# Altium integrated library NSC LDO.IntLib: 2590 symbols (part 30 of 64)
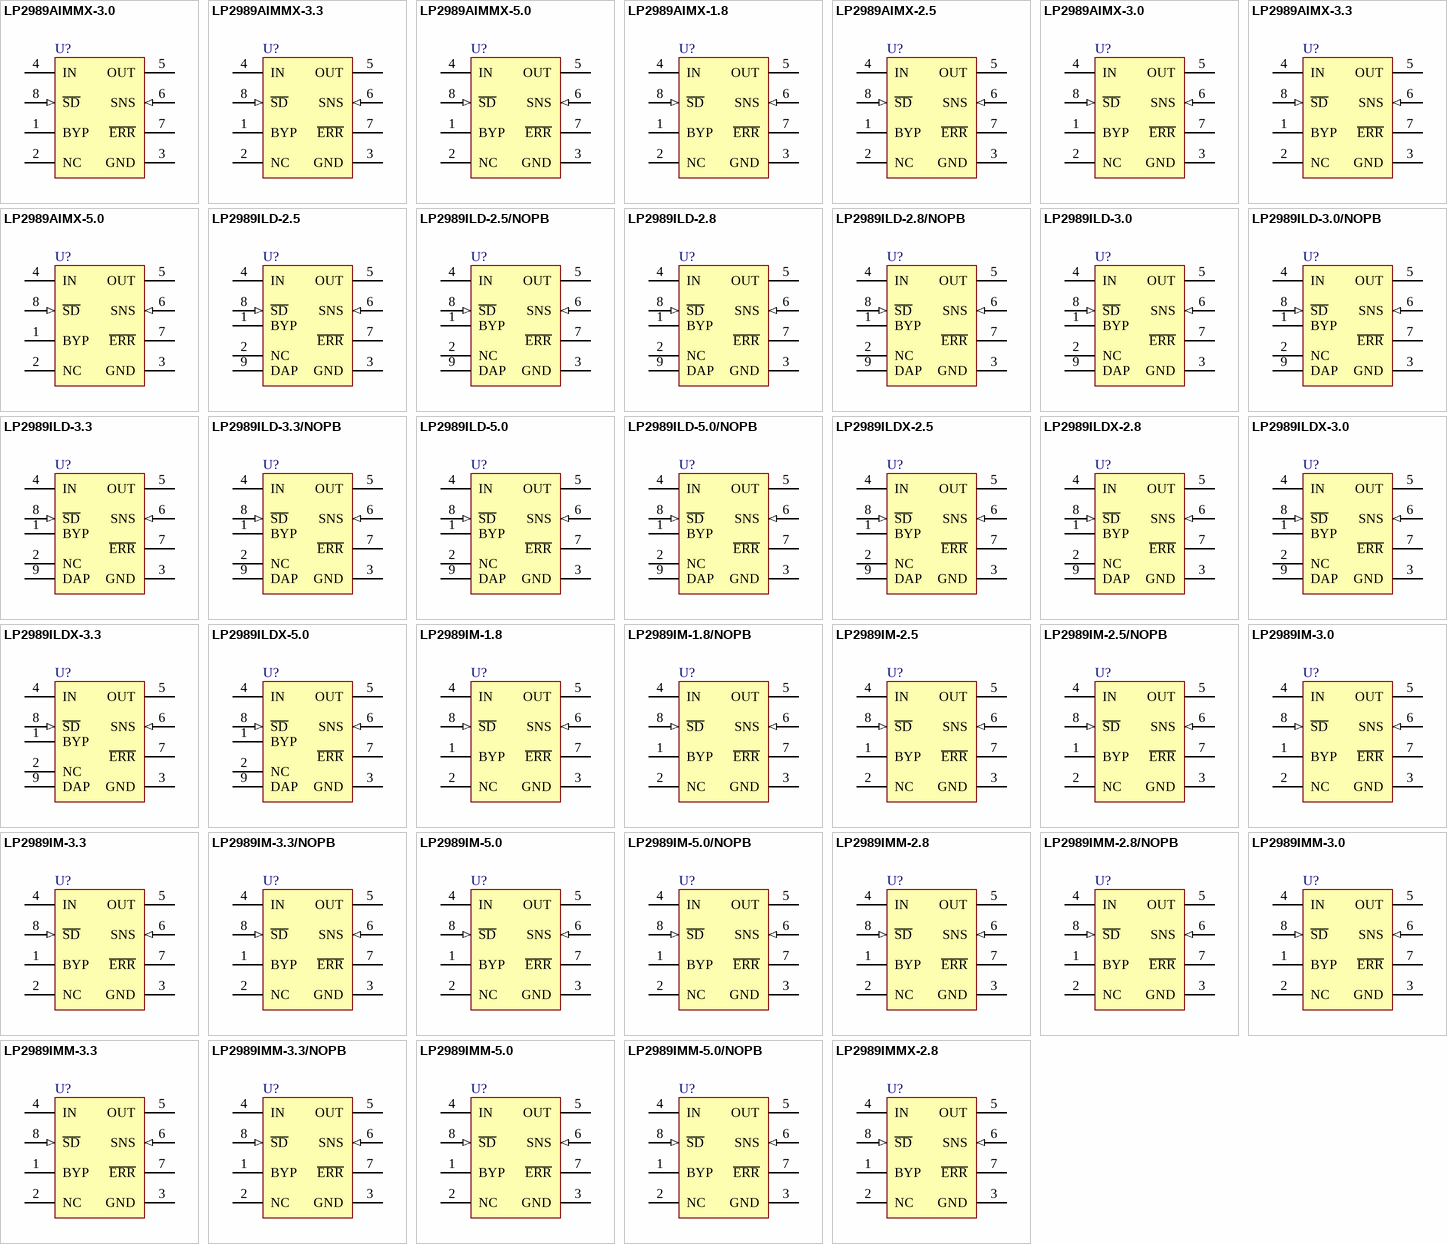
[diagram p94: symbols LP2989AIMMX-3.0 to LP2989IMMX-2.8]

## LP2989ILD-5.0
designator U?
Micropower/Low Noise, 500 mA Ultra Low-Dropout Regulator, 8-pin LLP; PartNumber: LP2989ILD-5.0; Manufacturer: National Semiconductor; PackageTopMarking: NS*UZXYTT*L01KA*B; PowerWise: N; CompType: LDO IC; Published: 4-Dec-2008; DatasheetVersion: Feb-2005; PackageVersion: revB, Jun-2003; PackageReference: LDC08A; Publisher: Altium Limited; PackageDescription: LLP, Plastic, Dual, 4 x 4 x 0.75mm Body, 8 Lead, 0.8mm Pitch; RoHS: N; PinCount: 8; ComponentLink1Description: LP2989 Datasheet; ComponentLink1URL: http://www.national.com/ds/LP/LP2989.pdf; ComponentLink2Description: LP2989 Web Page; ComponentLink2URL: http://www.national.com/pf/LP/LP2989.html; ComponentLink3Description: LDC08A Package Page; ComponentLink3URL: http://www.national.com/packaging/folders/ldc08a.html
footprint LDC08A (PSON, 8-Leads, Body 4x4mm, Pitch 0.8mm, NSC Recommended)
pins: 1 BYP, 2 NC, 3 GND (power), 4 IN (power), 5 OUT (power), 6 SNS (in), 7 ~{ERR} (oc), 8 ~{SD} (in), 9 DAP (power)

## LP2989ILD-5.0/NOPB
designator U?
Micropower/Low Noise, 500 mA Ultra Low-Dropout Regulator, 8-pin LLP, Pb-Free; PartNumber: LP2989ILD-5.0/NOPB; Manufacturer: National Semiconductor; PackageTopMarking: NS*UZXYTT*L01KA*B; PowerWise: N; CompType: LDO IC; Published: 1-Mar-2010; DatasheetVersion: Feb-2005; PackageVersion: revB, Jun-2003; PackageReference: LDC08A; Publisher: Altium Limited; PackageDescription: LLP, Plastic, Dual, 4 x 4 x 0.75mm Body, 8 Lead, 0.8mm Pitch; Supplier 1: Digi-Key; Supplier Part Number 1: LP2989ILD-5.0TR-ND; Supplier 2: Digi-Key; Supplier Part Number 2: LP2989ILD-5.0CT-ND; Supplier 3: Digi-Key; Supplier Part Number 3: LP2989ILD-5.0DKR-ND; RoHS: Y; PinCount: 8; ComponentLink1Description: LP2989 Datasheet; ComponentLink1URL: http://www.national.com/ds/LP/LP2989.pdf; ComponentLink2Description: LP2989 Web Page; ComponentLink2URL: http://www.national.com/pf/LP/LP2989.html; ComponentLink3Description: LDC08A Package Page; ComponentLink3URL: http://www.national.com/packaging/folders/ldc08a.html
footprint LDC08A (PSON, 8-Leads, Body 4x4mm, Pitch 0.8mm, NSC Recommended)
pins: 1 BYP, 2 NC, 3 GND (power), 4 IN (power), 5 OUT (power), 6 SNS (in), 7 ~{ERR} (oc), 8 ~{SD} (in), 9 DAP (power)

## LP2989ILDX-2.5
designator U?
Micropower/Low Noise, 500 mA Ultra Low-Dropout Regulator, 8-pin LLP; PartNumber: LP2989ILDX-2.5; Manufacturer: National Semiconductor; PackageTopMarking: NS*UZXYTT*L01FA*B; PowerWise: N; CompType: LDO IC; Published: 1-Mar-2010; DatasheetVersion: Feb-2005; PackageVersion: revB, Jun-2003; PackageReference: LDC08A; Publisher: Altium Limited; PackageDescription: LLP, Plastic, Dual, 4 x 4 x 0.75mm Body, 8 Lead, 0.8mm Pitch; RoHS: N; PinCount: 8; ComponentLink1Description: LP2989 Datasheet; ComponentLink1URL: http://www.national.com/ds/LP/LP2989.pdf; ComponentLink2Description: LP2989 Web Page; ComponentLink2URL: http://www.national.com/pf/LP/LP2989.html; ComponentLink3Description: LDC08A Package Page; ComponentLink3URL: http://www.national.com/packaging/folders/ldc08a.html
footprint LDC08A (PSON, 8-Leads, Body 4x4mm, Pitch 0.8mm, NSC Recommended)
pins: 1 BYP, 2 NC, 3 GND (power), 4 IN (power), 5 OUT (power), 6 SNS (in), 7 ~{ERR} (oc), 8 ~{SD} (in), 9 DAP (power)

## LP2989ILDX-2.8
designator U?
Micropower/Low Noise, 500 mA Ultra Low-Dropout Regulator, 8-pin LLP; PartNumber: LP2989ILDX-2.8; Manufacturer: National Semiconductor; PackageTopMarking: NS*UZXYTT*L000A*B; PowerWise: N; CompType: LDO IC; Published: 1-Mar-2010; DatasheetVersion: Feb-2005; PackageVersion: revB, Jun-2003; PackageReference: LDC08A; Publisher: Altium Limited; PackageDescription: LLP, Plastic, Dual, 4 x 4 x 0.75mm Body, 8 Lead, 0.8mm Pitch; RoHS: N; PinCount: 8; ComponentLink1Description: LP2989 Datasheet; ComponentLink1URL: http://www.national.com/ds/LP/LP2989.pdf; ComponentLink2Description: LP2989 Web Page; ComponentLink2URL: http://www.national.com/pf/LP/LP2989.html; ComponentLink3Description: LDC08A Package Page; ComponentLink3URL: http://www.national.com/packaging/folders/ldc08a.html
footprint LDC08A (PSON, 8-Leads, Body 4x4mm, Pitch 0.8mm, NSC Recommended)
pins: 1 BYP, 2 NC, 3 GND (power), 4 IN (power), 5 OUT (power), 6 SNS (in), 7 ~{ERR} (oc), 8 ~{SD} (in), 9 DAP (power)

## LP2989ILDX-3.0
designator U?
Micropower/Low Noise, 500 mA Ultra Low-Dropout Regulator, 8-pin LLP; PartNumber: LP2989ILDX-3.0; Manufacturer: National Semiconductor; PackageTopMarking: NS*UZXYTT*L01HA*B; PowerWise: N; CompType: LDO IC; Published: 1-Mar-2010; DatasheetVersion: Feb-2005; PackageVersion: revB, Jun-2003; PackageReference: LDC08A; Publisher: Altium Limited; PackageDescription: LLP, Plastic, Dual, 4 x 4 x 0.75mm Body, 8 Lead, 0.8mm Pitch; RoHS: N; PinCount: 8; ComponentLink1Description: LP2989 Datasheet; ComponentLink1URL: http://www.national.com/ds/LP/LP2989.pdf; ComponentLink2Description: LP2989 Web Page; ComponentLink2URL: http://www.national.com/pf/LP/LP2989.html; ComponentLink3Description: LDC08A Package Page; ComponentLink3URL: http://www.national.com/packaging/folders/ldc08a.html
footprint LDC08A (PSON, 8-Leads, Body 4x4mm, Pitch 0.8mm, NSC Recommended)
pins: 1 BYP, 2 NC, 3 GND (power), 4 IN (power), 5 OUT (power), 6 SNS (in), 7 ~{ERR} (oc), 8 ~{SD} (in), 9 DAP (power)

## LP2989ILDX-3.3
designator U?
Micropower/Low Noise, 500 mA Ultra Low-Dropout Regulator, 8-pin LLP; PartNumber: LP2989ILDX-3.3; Manufacturer: National Semiconductor; PackageTopMarking: NS*UZXYTT*L01JA*B; PowerWise: N; CompType: LDO IC; Published: 1-Mar-2010; DatasheetVersion: Feb-2005; PackageVersion: revB, Jun-2003; PackageReference: LDC08A; Publisher: Altium Limited; PackageDescription: LLP, Plastic, Dual, 4 x 4 x 0.75mm Body, 8 Lead, 0.8mm Pitch; RoHS: N; PinCount: 8; ComponentLink1Description: LP2989 Datasheet; ComponentLink1URL: http://www.national.com/ds/LP/LP2989.pdf; ComponentLink2Description: LP2989 Web Page; ComponentLink2URL: http://www.national.com/pf/LP/LP2989.html; ComponentLink3Description: LDC08A Package Page; ComponentLink3URL: http://www.national.com/packaging/folders/ldc08a.html
footprint LDC08A (PSON, 8-Leads, Body 4x4mm, Pitch 0.8mm, NSC Recommended)
pins: 1 BYP, 2 NC, 3 GND (power), 4 IN (power), 5 OUT (power), 6 SNS (in), 7 ~{ERR} (oc), 8 ~{SD} (in), 9 DAP (power)

## LP2989ILDX-5.0
designator U?
Micropower/Low Noise, 500 mA Ultra Low-Dropout Regulator, 8-pin LLP; PartNumber: LP2989ILDX-5.0; Manufacturer: National Semiconductor; PackageTopMarking: NS*UZXYTT*L01KA*B; PowerWise: N; CompType: LDO IC; Published: 1-Mar-2010; DatasheetVersion: Feb-2005; PackageVersion: revB, Jun-2003; PackageReference: LDC08A; Publisher: Altium Limited; PackageDescription: LLP, Plastic, Dual, 4 x 4 x 0.75mm Body, 8 Lead, 0.8mm Pitch; RoHS: N; PinCount: 8; ComponentLink1Description: LP2989 Datasheet; ComponentLink1URL: http://www.national.com/ds/LP/LP2989.pdf; ComponentLink2Description: LP2989 Web Page; ComponentLink2URL: http://www.national.com/pf/LP/LP2989.html; ComponentLink3Description: LDC08A Package Page; ComponentLink3URL: http://www.national.com/packaging/folders/ldc08a.html
footprint LDC08A (PSON, 8-Leads, Body 4x4mm, Pitch 0.8mm, NSC Recommended)
pins: 1 BYP, 2 NC, 3 GND (power), 4 IN (power), 5 OUT (power), 6 SNS (in), 7 ~{ERR} (oc), 8 ~{SD} (in), 9 DAP (power)

## LP2989IM-1.8
designator U?
Micropower/Low Noise, 500 mA Ultra Low-Dropout Regulator, 8-pin Narrow SOIC; PartNumber: LP2989IM-1.8; Manufacturer: National Semiconductor; PackageTopMarking: NSZXTT*2989*IM1.8; PowerWise: N; CompType: LDO IC; Published: 4-Dec-2008; DatasheetVersion: Feb-2005; PackageVersion: revM, May-2009; PackageReference: M08A; Publisher: Altium Limited; PackageDescription: SOIC Narrow, 4.9 x 3.9 x 1.45mm, 8 Lead, 1.27mm Pitch; RoHS: N; PinCount: 8; Code_JEDEC: MS-012-AA; Code_IPC: SOIC127P600-8; ComponentLink1Description: LP2989 Datasheet; ComponentLink1URL: http://www.national.com/ds/LP/LP2989LV.pdf; ComponentLink2Description: LP2989 Web Page; ComponentLink2URL: http://www.national.com/pf/LP/LP2989.html; ComponentLink3Description: M08A Package Page; ComponentLink3URL: http://www.national.com/packaging/folders/m08a.html
footprint M08A_N (SOIC, 8-Leads, Body 4.9x3.9mm, Pitch 1.27mm, IPC Medium Density)
footprint M08A_L (SOIC, 8-Leads, Body 4.9x3.9mm, Pitch 1.27mm, IPC High Density)
footprint M08A_M (SOIC, 8-Leads, Body 4.9x3.9mm, Pitch 1.27mm, IPC Low Density)
pins: 1 BYP, 2 NC, 3 GND (power), 4 IN (power), 5 OUT (power), 6 SNS (in), 7 ~{ERR} (oc), 8 ~{SD} (in)

## LP2989IM-1.8/NOPB
designator U?
Micropower 500 mA Low Noise Low-Dropout Regulator for Applications with Output Voltages < 2V, 8-pin Narrow SOIC, Pb-Free; PartNumber: LP2989IM-1.8/NOPB; Manufacturer: National Semiconductor; PackageTopMarking: NSZXTT*2989*IM1.8; PowerWise: N; CompType: LDO IC; Published: 1-Mar-2010; DatasheetVersion: Feb-2005; PackageVersion: revM, May-2009; PackageReference: M08A; Publisher: Altium Limited; PackageDescription: SOIC Narrow, 4.9 x 3.9 x 1.45mm, 8 Lead, 1.27mm Pitch; Supplier 1: Digi-Key; Supplier Part Number 1: LP2989IM-1.8-ND; RoHS: Y; PinCount: 8; Code_JEDEC: MS-012-AA; Code_IPC: SOIC127P600-8; ComponentLink1Description: LP2989 Datasheet; ComponentLink1URL: http://www.national.com/ds/LP/LP2989LV.pdf; ComponentLink2Description: LP2989 Web Page; ComponentLink2URL: http://www.national.com/pf/LP/LP2989.html; ComponentLink3Description: M08A Package Page; ComponentLink3URL: http://www.national.com/packaging/folders/m08a.html
footprint M08A_N (SOIC, 8-Leads, Body 4.9x3.9mm, Pitch 1.27mm, IPC Medium Density)
footprint M08A_L (SOIC, 8-Leads, Body 4.9x3.9mm, Pitch 1.27mm, IPC High Density)
footprint M08A_M (SOIC, 8-Leads, Body 4.9x3.9mm, Pitch 1.27mm, IPC Low Density)
pins: 1 BYP, 2 NC, 3 GND (power), 4 IN (power), 5 OUT (power), 6 SNS (in), 7 ~{ERR} (oc), 8 ~{SD} (in)

## LP2989IM-2.5
designator U?
Micropower/Low Noise, 500 mA Ultra Low-Dropout Regulator, 8-pin Narrow SOIC; PartNumber: LP2989IM-2.5; Manufacturer: National Semiconductor; PackageTopMarking: NSZXTT*2989*IM2.5; PowerWise: N; CompType: LDO IC; Published: 4-Dec-2008; DatasheetVersion: Feb-2005; PackageVersion: revM, May-2009; PackageReference: M08A; Publisher: Altium Limited; PackageDescription: SOIC Narrow, 4.9 x 3.9 x 1.45mm, 8 Lead, 1.27mm Pitch; Supplier 1: Farnell; Supplier Part Number 1: 9486569; RoHS: N; PinCount: 8; Code_JEDEC: MS-012-AA; Code_IPC: SOIC127P600-8; ComponentLink1Description: LP2989 Datasheet; ComponentLink1URL: http://www.national.com/ds/LP/LP2989.pdf; ComponentLink2Description: LP2989 Web Page; ComponentLink2URL: http://www.national.com/pf/LP/LP2989.html; ComponentLink3Description: M08A Package Page; ComponentLink3URL: http://www.national.com/packaging/folders/m08a.html
footprint M08A_N (SOIC, 8-Leads, Body 4.9x3.9mm, Pitch 1.27mm, IPC Medium Density)
footprint M08A_L (SOIC, 8-Leads, Body 4.9x3.9mm, Pitch 1.27mm, IPC High Density)
footprint M08A_M (SOIC, 8-Leads, Body 4.9x3.9mm, Pitch 1.27mm, IPC Low Density)
pins: 1 BYP, 2 NC, 3 GND (power), 4 IN (power), 5 OUT (power), 6 SNS (in), 7 ~{ERR} (oc), 8 ~{SD} (in)

## LP2989IM-2.5/NOPB
designator U?
Micropower/Low Noise, 500 mA Ultra Low-Dropout Regulator, 8-pin Narrow SOIC, Pb-Free; PartNumber: LP2989IM-2.5/NOPB; Manufacturer: National Semiconductor; PackageTopMarking: NSZXTT*2989*IM2.5; PowerWise: N; CompType: LDO IC; Published: 1-Mar-2010; DatasheetVersion: Feb-2005; PackageVersion: revM, May-2009; PackageReference: M08A; Publisher: Altium Limited; PackageDescription: SOIC Narrow, 4.9 x 3.9 x 1.45mm, 8 Lead, 1.27mm Pitch; Supplier 1: Digi-Key; Supplier Part Number 1: LP2989IM-2.5-ND; RoHS: Y; PinCount: 8; Code_JEDEC: MS-012-AA; Code_IPC: SOIC127P600-8; ComponentLink1Description: LP2989 Datasheet; ComponentLink1URL: http://www.national.com/ds/LP/LP2989.pdf; ComponentLink2Description: LP2989 Web Page; ComponentLink2URL: http://www.national.com/pf/LP/LP2989.html; ComponentLink3Description: M08A Package Page; ComponentLink3URL: http://www.national.com/packaging/folders/m08a.html
footprint M08A_N (SOIC, 8-Leads, Body 4.9x3.9mm, Pitch 1.27mm, IPC Medium Density)
footprint M08A_L (SOIC, 8-Leads, Body 4.9x3.9mm, Pitch 1.27mm, IPC High Density)
footprint M08A_M (SOIC, 8-Leads, Body 4.9x3.9mm, Pitch 1.27mm, IPC Low Density)
pins: 1 BYP, 2 NC, 3 GND (power), 4 IN (power), 5 OUT (power), 6 SNS (in), 7 ~{ERR} (oc), 8 ~{SD} (in)

## LP2989IM-3.0
designator U?
Micropower/Low Noise, 500 mA Ultra Low-Dropout Regulator, 8-pin Narrow SOIC; PartNumber: LP2989IM-3.0; Manufacturer: National Semiconductor; PackageTopMarking: NSZXTT*2989*IM3.0; PowerWise: N; CompType: LDO IC; Published: 4-Dec-2008; DatasheetVersion: Feb-2005; PackageVersion: revM, May-2009; PackageReference: M08A; Publisher: Altium Limited; PackageDescription: SOIC Narrow, 4.9 x 3.9 x 1.45mm, 8 Lead, 1.27mm Pitch; RoHS: N; PinCount: 8; Code_JEDEC: MS-012-AA; Code_IPC: SOIC127P600-8; ComponentLink1Description: LP2989 Datasheet; ComponentLink1URL: http://www.national.com/ds/LP/LP2989.pdf; ComponentLink2Description: LP2989 Web Page; ComponentLink2URL: http://www.national.com/pf/LP/LP2989.html; ComponentLink3Description: M08A Package Page; ComponentLink3URL: http://www.national.com/packaging/folders/m08a.html
footprint M08A_N (SOIC, 8-Leads, Body 4.9x3.9mm, Pitch 1.27mm, IPC Medium Density)
footprint M08A_L (SOIC, 8-Leads, Body 4.9x3.9mm, Pitch 1.27mm, IPC High Density)
footprint M08A_M (SOIC, 8-Leads, Body 4.9x3.9mm, Pitch 1.27mm, IPC Low Density)
pins: 1 BYP, 2 NC, 3 GND (power), 4 IN (power), 5 OUT (power), 6 SNS (in), 7 ~{ERR} (oc), 8 ~{SD} (in)

## LP2989IM-3.3
designator U?
Micropower/Low Noise, 500 mA Ultra Low-Dropout Regulator, 8-pin Narrow SOIC; PartNumber: LP2989IM-3.3; Manufacturer: National Semiconductor; PackageTopMarking: NSZXTT*2989*IM3.3; PowerWise: N; CompType: LDO IC; Published: 4-Dec-2008; DatasheetVersion: Feb-2005; PackageVersion: revM, May-2009; PackageReference: M08A; Publisher: Altium Limited; PackageDescription: SOIC Narrow, 4.9 x 3.9 x 1.45mm, 8 Lead, 1.27mm Pitch; RoHS: N; PinCount: 8; Code_JEDEC: MS-012-AA; Code_IPC: SOIC127P600-8; ComponentLink1Description: LP2989 Datasheet; ComponentLink1URL: http://www.national.com/ds/LP/LP2989.pdf; ComponentLink2Description: LP2989 Web Page; ComponentLink2URL: http://www.national.com/pf/LP/LP2989.html; ComponentLink3Description: M08A Package Page; ComponentLink3URL: http://www.national.com/packaging/folders/m08a.html
footprint M08A_N (SOIC, 8-Leads, Body 4.9x3.9mm, Pitch 1.27mm, IPC Medium Density)
footprint M08A_L (SOIC, 8-Leads, Body 4.9x3.9mm, Pitch 1.27mm, IPC High Density)
footprint M08A_M (SOIC, 8-Leads, Body 4.9x3.9mm, Pitch 1.27mm, IPC Low Density)
pins: 1 BYP, 2 NC, 3 GND (power), 4 IN (power), 5 OUT (power), 6 SNS (in), 7 ~{ERR} (oc), 8 ~{SD} (in)

## LP2989IM-3.3/NOPB
designator U?
Micropower/Low Noise, 500 mA Ultra Low-Dropout Regulator, 8-pin Narrow SOIC, Pb-Free; PartNumber: LP2989IM-3.3/NOPB; Manufacturer: National Semiconductor; PackageTopMarking: NSZXTT*2989*IM3.3; PowerWise: N; CompType: LDO IC; Published: 1-Mar-2010; DatasheetVersion: Feb-2005; PackageVersion: revM, May-2009; PackageReference: M08A; Publisher: Altium Limited; PackageDescription: SOIC Narrow, 4.9 x 3.9 x 1.45mm, 8 Lead, 1.27mm Pitch; Supplier 1: Digi-Key; Supplier Part Number 1: LP2989IM-3.3-ND; Supplier 2: Farnell; Supplier Part Number 2: 1652324; RoHS: Y; PinCount: 8; Code_JEDEC: MS-012-AA; Code_IPC: SOIC127P600-8; ComponentLink1Description: LP2989 Datasheet; ComponentLink1URL: http://www.national.com/ds/LP/LP2989.pdf; ComponentLink2Description: LP2989 Web Page; ComponentLink2URL: http://www.national.com/pf/LP/LP2989.html; ComponentLink3Description: M08A Package Page; ComponentLink3URL: http://www.national.com/packaging/folders/m08a.html
footprint M08A_N (SOIC, 8-Leads, Body 4.9x3.9mm, Pitch 1.27mm, IPC Medium Density)
footprint M08A_L (SOIC, 8-Leads, Body 4.9x3.9mm, Pitch 1.27mm, IPC High Density)
footprint M08A_M (SOIC, 8-Leads, Body 4.9x3.9mm, Pitch 1.27mm, IPC Low Density)
pins: 1 BYP, 2 NC, 3 GND (power), 4 IN (power), 5 OUT (power), 6 SNS (in), 7 ~{ERR} (oc), 8 ~{SD} (in)

## LP2989IM-5.0
designator U?
Micropower/Low Noise, 500 mA Ultra Low-Dropout Regulator, 8-pin Narrow SOIC; PartNumber: LP2989IM-5.0; Manufacturer: National Semiconductor; PackageTopMarking: NSZXTT*2989*IM5.0; PowerWise: N; CompType: LDO IC; Published: 4-Dec-2008; DatasheetVersion: Feb-2005; PackageVersion: revM, May-2009; PackageReference: M08A; Publisher: Altium Limited; PackageDescription: SOIC Narrow, 4.9 x 3.9 x 1.45mm, 8 Lead, 1.27mm Pitch; RoHS: N; PinCount: 8; Code_JEDEC: MS-012-AA; Code_IPC: SOIC127P600-8; ComponentLink1Description: LP2989 Datasheet; ComponentLink1URL: http://www.national.com/ds/LP/LP2989.pdf; ComponentLink2Description: LP2989 Web Page; ComponentLink2URL: http://www.national.com/pf/LP/LP2989.html; ComponentLink3Description: M08A Package Page; ComponentLink3URL: http://www.national.com/packaging/folders/m08a.html
footprint M08A_N (SOIC, 8-Leads, Body 4.9x3.9mm, Pitch 1.27mm, IPC Medium Density)
footprint M08A_L (SOIC, 8-Leads, Body 4.9x3.9mm, Pitch 1.27mm, IPC High Density)
footprint M08A_M (SOIC, 8-Leads, Body 4.9x3.9mm, Pitch 1.27mm, IPC Low Density)
pins: 1 BYP, 2 NC, 3 GND (power), 4 IN (power), 5 OUT (power), 6 SNS (in), 7 ~{ERR} (oc), 8 ~{SD} (in)

## LP2989IM-5.0/NOPB
designator U?
Micropower/Low Noise, 500 mA Ultra Low-Dropout Regulator, 8-pin Narrow SOIC, Pb-Free; PartNumber: LP2989IM-5.0/NOPB; Manufacturer: National Semiconductor; PackageTopMarking: NSZXTT*2989*IM5.0; PowerWise: N; CompType: LDO IC; Published: 1-Mar-2010; DatasheetVersion: Feb-2005; PackageVersion: revM, May-2009; PackageReference: M08A; Publisher: Altium Limited; PackageDescription: SOIC Narrow, 4.9 x 3.9 x 1.45mm, 8 Lead, 1.27mm Pitch; Supplier 1: Digi-Key; Supplier Part Number 1: LP2989IM-5.0-ND; Supplier 2: Farnell; Supplier Part Number 2: 1685689; RoHS: Y; PinCount: 8; Code_JEDEC: MS-012-AA; Code_IPC: SOIC127P600-8; ComponentLink1Description: LP2989 Datasheet; ComponentLink1URL: http://www.national.com/ds/LP/LP2989.pdf; ComponentLink2Description: LP2989 Web Page; ComponentLink2URL: http://www.national.com/pf/LP/LP2989.html; ComponentLink3Description: M08A Package Page; ComponentLink3URL: http://www.national.com/packaging/folders/m08a.html
footprint M08A_N (SOIC, 8-Leads, Body 4.9x3.9mm, Pitch 1.27mm, IPC Medium Density)
footprint M08A_L (SOIC, 8-Leads, Body 4.9x3.9mm, Pitch 1.27mm, IPC High Density)
footprint M08A_M (SOIC, 8-Leads, Body 4.9x3.9mm, Pitch 1.27mm, IPC Low Density)
pins: 1 BYP, 2 NC, 3 GND (power), 4 IN (power), 5 OUT (power), 6 SNS (in), 7 ~{ERR} (oc), 8 ~{SD} (in)

## LP2989IMM-2.8
designator U?
Micropower/Low Noise, 500 mA Ultra Low-Dropout Regulator, 8-pin Mini SOIC; PartNumber: LP2989IMM-2.8; Manufacturer: National Semiconductor; PackageTopMarking: ZXTT*LA6B; PowerWise: N; CompType: LDO IC; Published: 4-Dec-2008; DatasheetVersion: Feb-2005; PackageVersion: revF, Apr-2008; PackageReference: MUA08A; Publisher: Altium Limited; PackageDescription: MINI SOIC, .118 x .118 x .034in, 8 Lead, .0256in Pitch; Supplier 1: Digi-Key; Supplier Part Number 1: LP2989IMM-2.8TR-ND; Supplier 2: Digi-Key; Supplier Part Number 2: LP2989IMM-2.8CT-ND; Supplier 3: Digi-Key; Supplier Part Number 3: LP2989IMM-2.8DKR-ND; RoHS: N; PinCount: 8; Code_JEDEC: MO-187-AA; ComponentLink1Description: LP2989 Datasheet; ComponentLink1URL: http://www.national.com/ds/LP/LP2989.pdf; ComponentLink2Description: LP2989 Web Page; ComponentLink2URL: http://www.national.com/pf/LP/LP2989.html; ComponentLink3Description: MUA08A Package Page; ComponentLink3URL: http://www.national.com/packaging/folders/mua08a.html
footprint MUA08A_N (TSOP, 8-Leads, Body 3x3mm, Pitch 0.65mm, IPC Medium Density)
footprint MUA08A_L (TSOP, 8-Leads, Body 3x3mm, Pitch 0.65mm, IPC High Density)
footprint MUA08A_M (TSOP, 8-Leads, Body 3x3mm, Pitch 0.65mm, IPC Low Density)
pins: 1 BYP, 2 NC, 3 GND (power), 4 IN (power), 5 OUT (power), 6 SNS (in), 7 ~{ERR} (oc), 8 ~{SD} (in)

## LP2989IMM-2.8/NOPB
designator U?
Micropower/Low Noise, 500 mA Ultra Low-Dropout Regulator, 8-pin Mini SOIC, Pb-Free; PartNumber: LP2989IMM-2.8/NOPB; Manufacturer: National Semiconductor; PackageTopMarking: ZXTT*LA6B; PowerWise: N; CompType: LDO IC; Published: 1-Mar-2010; DatasheetVersion: Feb-2005; PackageVersion: revF, Apr-2008; PackageReference: MUA08A; Publisher: Altium Limited; PackageDescription: MINI SOIC, .118 x .118 x .034in, 8 Lead, .0256in Pitch; RoHS: Y; PinCount: 8; Code_JEDEC: MO-187-AA; ComponentLink1Description: LP2989 Datasheet; ComponentLink1URL: http://www.national.com/ds/LP/LP2989.pdf; ComponentLink2Description: LP2989 Web Page; ComponentLink2URL: http://www.national.com/pf/LP/LP2989.html; ComponentLink3Description: MUA08A Package Page; ComponentLink3URL: http://www.national.com/packaging/folders/mua08a.html
footprint MUA08A_N (TSOP, 8-Leads, Body 3x3mm, Pitch 0.65mm, IPC Medium Density)
footprint MUA08A_L (TSOP, 8-Leads, Body 3x3mm, Pitch 0.65mm, IPC High Density)
footprint MUA08A_M (TSOP, 8-Leads, Body 3x3mm, Pitch 0.65mm, IPC Low Density)
pins: 1 BYP, 2 NC, 3 GND (power), 4 IN (power), 5 OUT (power), 6 SNS (in), 7 ~{ERR} (oc), 8 ~{SD} (in)

## LP2989IMM-3.0
designator U?
Micropower/Low Noise, 500 mA Ultra Low-Dropout Regulator, 8-pin Mini SOIC; PartNumber: LP2989IMM-3.0; Manufacturer: National Semiconductor; PackageTopMarking: ZXTT*LA1B; PowerWise: N; CompType: LDO IC; Published: 4-Dec-2008; DatasheetVersion: Feb-2005; PackageVersion: revF, Apr-2008; PackageReference: MUA08A; Publisher: Altium Limited; PackageDescription: MINI SOIC, .118 x .118 x .034in, 8 Lead, .0256in Pitch; RoHS: N; PinCount: 8; Code_JEDEC: MO-187-AA; ComponentLink1Description: LP2989 Datasheet; ComponentLink1URL: http://www.national.com/ds/LP/LP2989.pdf; ComponentLink2Description: LP2989 Web Page; ComponentLink2URL: http://www.national.com/pf/LP/LP2989.html; ComponentLink3Description: MUA08A Package Page; ComponentLink3URL: http://www.national.com/packaging/folders/mua08a.html
footprint MUA08A_N (TSOP, 8-Leads, Body 3x3mm, Pitch 0.65mm, IPC Medium Density)
footprint MUA08A_L (TSOP, 8-Leads, Body 3x3mm, Pitch 0.65mm, IPC High Density)
footprint MUA08A_M (TSOP, 8-Leads, Body 3x3mm, Pitch 0.65mm, IPC Low Density)
pins: 1 BYP, 2 NC, 3 GND (power), 4 IN (power), 5 OUT (power), 6 SNS (in), 7 ~{ERR} (oc), 8 ~{SD} (in)

## LP2989IMM-3.3
designator U?
Micropower/Low Noise, 500 mA Ultra Low-Dropout Regulator, 8-pin Mini SOIC; PartNumber: LP2989IMM-3.3; Manufacturer: National Semiconductor; PackageTopMarking: ZXTT*LA2B; PowerWise: N; CompType: LDO IC; Published: 4-Dec-2008; DatasheetVersion: Feb-2005; PackageVersion: revF, Apr-2008; PackageReference: MUA08A; Publisher: Altium Limited; PackageDescription: MINI SOIC, .118 x .118 x .034in, 8 Lead, .0256in Pitch; RoHS: N; PinCount: 8; Code_JEDEC: MO-187-AA; ComponentLink1Description: LP2989 Datasheet; ComponentLink1URL: http://www.national.com/ds/LP/LP2989.pdf; ComponentLink2Description: LP2989 Web Page; ComponentLink2URL: http://www.national.com/pf/LP/LP2989.html; ComponentLink3Description: MUA08A Package Page; ComponentLink3URL: http://www.national.com/packaging/folders/mua08a.html
footprint MUA08A_N (TSOP, 8-Leads, Body 3x3mm, Pitch 0.65mm, IPC Medium Density)
footprint MUA08A_L (TSOP, 8-Leads, Body 3x3mm, Pitch 0.65mm, IPC High Density)
footprint MUA08A_M (TSOP, 8-Leads, Body 3x3mm, Pitch 0.65mm, IPC Low Density)
pins: 1 BYP, 2 NC, 3 GND (power), 4 IN (power), 5 OUT (power), 6 SNS (in), 7 ~{ERR} (oc), 8 ~{SD} (in)

## LP2989IMM-3.3/NOPB
designator U?
Micropower/Low Noise, 500 mA Ultra Low-Dropout Regulator, 8-pin Mini SOIC, Pb-Free; PartNumber: LP2989IMM-3.3/NOPB; Manufacturer: National Semiconductor; PackageTopMarking: ZXTT*LA2B; PowerWise: N; CompType: LDO IC; Published: 1-Mar-2010; DatasheetVersion: Feb-2005; PackageVersion: revF, Apr-2008; PackageReference: MUA08A; Publisher: Altium Limited; PackageDescription: MINI SOIC, .118 x .118 x .034in, 8 Lead, .0256in Pitch; Supplier 1: Digi-Key; Supplier Part Number 1: LP2989IMM-3.3TR-ND; Supplier 2: Digi-Key; Supplier Part Number 2: LP2989IMM-3.3CT-ND; Supplier 3: Digi-Key; Supplier Part Number 3: LP2989IMM-3.3DKR-ND; Supplier 4: Farnell; Supplier Part Number 4: 1685549; RoHS: Y; PinCount: 8; Code_JEDEC: MO-187-AA; ComponentLink1Description: LP2989 Datasheet; ComponentLink1URL: http://www.national.com/ds/LP/LP2989.pdf; ComponentLink2Description: LP2989 Web Page; ComponentLink2URL: http://www.national.com/pf/LP/LP2989.html; ComponentLink3Description: MUA08A Package Page; ComponentLink3URL: http://www.national.com/packaging/folders/mua08a.html
footprint MUA08A_N (TSOP, 8-Leads, Body 3x3mm, Pitch 0.65mm, IPC Medium Density)
footprint MUA08A_L (TSOP, 8-Leads, Body 3x3mm, Pitch 0.65mm, IPC High Density)
footprint MUA08A_M (TSOP, 8-Leads, Body 3x3mm, Pitch 0.65mm, IPC Low Density)
pins: 1 BYP, 2 NC, 3 GND (power), 4 IN (power), 5 OUT (power), 6 SNS (in), 7 ~{ERR} (oc), 8 ~{SD} (in)

## LP2989IMM-5.0
designator U?
Micropower/Low Noise, 500 mA Ultra Low-Dropout Regulator, 8-pin Mini SOIC; PartNumber: LP2989IMM-5.0; Manufacturer: National Semiconductor; PackageTopMarking: ZXTT*LA4B; PowerWise: N; CompType: LDO IC; Published: 4-Dec-2008; DatasheetVersion: Feb-2005; PackageVersion: revF, Apr-2008; PackageReference: MUA08A; Publisher: Altium Limited; PackageDescription: MINI SOIC, .118 x .118 x .034in, 8 Lead, .0256in Pitch; RoHS: N; PinCount: 8; Code_JEDEC: MO-187-AA; ComponentLink1Description: LP2989 Datasheet; ComponentLink1URL: http://www.national.com/ds/LP/LP2989.pdf; ComponentLink2Description: LP2989 Web Page; ComponentLink2URL: http://www.national.com/pf/LP/LP2989.html; ComponentLink3Description: MUA08A Package Page; ComponentLink3URL: http://www.national.com/packaging/folders/mua08a.html
footprint MUA08A_N (TSOP, 8-Leads, Body 3x3mm, Pitch 0.65mm, IPC Medium Density)
footprint MUA08A_L (TSOP, 8-Leads, Body 3x3mm, Pitch 0.65mm, IPC High Density)
footprint MUA08A_M (TSOP, 8-Leads, Body 3x3mm, Pitch 0.65mm, IPC Low Density)
pins: 1 BYP, 2 NC, 3 GND (power), 4 IN (power), 5 OUT (power), 6 SNS (in), 7 ~{ERR} (oc), 8 ~{SD} (in)

## LP2989IMM-5.0/NOPB
designator U?
Micropower/Low Noise, 500 mA Ultra Low-Dropout Regulator, 8-pin Mini SOIC, Pb-Free; PartNumber: LP2989IMM-5.0/NOPB; Manufacturer: National Semiconductor; PackageTopMarking: ZXTT*LA4B; PowerWise: N; CompType: LDO IC; Published: 1-Mar-2010; DatasheetVersion: Feb-2005; PackageVersion: revF, Apr-2008; PackageReference: MUA08A; Publisher: Altium Limited; PackageDescription: MINI SOIC, .118 x .118 x .034in, 8 Lead, .0256in Pitch; Supplier 1: Digi-Key; Supplier Part Number 1: LP2989IMM-5.0TR-ND; Supplier 2: Digi-Key; Supplier Part Number 2: LP2989IMM-5.0CT-ND; Supplier 3: Digi-Key; Supplier Part Number 3: LP2989IMM-5.0DKR-ND; RoHS: Y; PinCount: 8; Code_JEDEC: MO-187-AA; ComponentLink1Description: LP2989 Datasheet; ComponentLink1URL: http://www.national.com/ds/LP/LP2989.pdf; ComponentLink2Description: LP2989 Web Page; ComponentLink2URL: http://www.national.com/pf/LP/LP2989.html; ComponentLink3Description: MUA08A Package Page; ComponentLink3URL: http://www.national.com/packaging/folders/mua08a.html
footprint MUA08A_N (TSOP, 8-Leads, Body 3x3mm, Pitch 0.65mm, IPC Medium Density)
footprint MUA08A_L (TSOP, 8-Leads, Body 3x3mm, Pitch 0.65mm, IPC High Density)
footprint MUA08A_M (TSOP, 8-Leads, Body 3x3mm, Pitch 0.65mm, IPC Low Density)
pins: 1 BYP, 2 NC, 3 GND (power), 4 IN (power), 5 OUT (power), 6 SNS (in), 7 ~{ERR} (oc), 8 ~{SD} (in)

## LP2989IMMX-2.8
designator U?
Micropower/Low Noise, 500 mA Ultra Low-Dropout Regulator, 8-pin Mini SOIC; PartNumber: LP2989IMMX-2.8; Manufacturer: National Semiconductor; PackageTopMarking: ZXTT*LA6B; PowerWise: N; CompType: LDO IC; Published: 1-Mar-2010; DatasheetVersion: Feb-2005; PackageVersion: revF, Apr-2008; PackageReference: MUA08A; Publisher: Altium Limited; PackageDescription: MINI SOIC, .118 x .118 x .034in, 8 Lead, .0256in Pitch; RoHS: N; PinCount: 8; Code_JEDEC: MO-187-AA; ComponentLink1Description: LP2989 Datasheet; ComponentLink1URL: http://www.national.com/ds/LP/LP2989.pdf; ComponentLink2Description: LP2989 Web Page; ComponentLink2URL: http://www.national.com/pf/LP/LP2989.html; ComponentLink3Description: MUA08A Package Page; ComponentLink3URL: http://www.national.com/packaging/folders/mua08a.html
footprint MUA08A_N (TSOP, 8-Leads, Body 3x3mm, Pitch 0.65mm, IPC Medium Density)
footprint MUA08A_L (TSOP, 8-Leads, Body 3x3mm, Pitch 0.65mm, IPC High Density)
footprint MUA08A_M (TSOP, 8-Leads, Body 3x3mm, Pitch 0.65mm, IPC Low Density)
pins: 1 BYP, 2 NC, 3 GND (power), 4 IN (power), 5 OUT (power), 6 SNS (in), 7 ~{ERR} (oc), 8 ~{SD} (in)

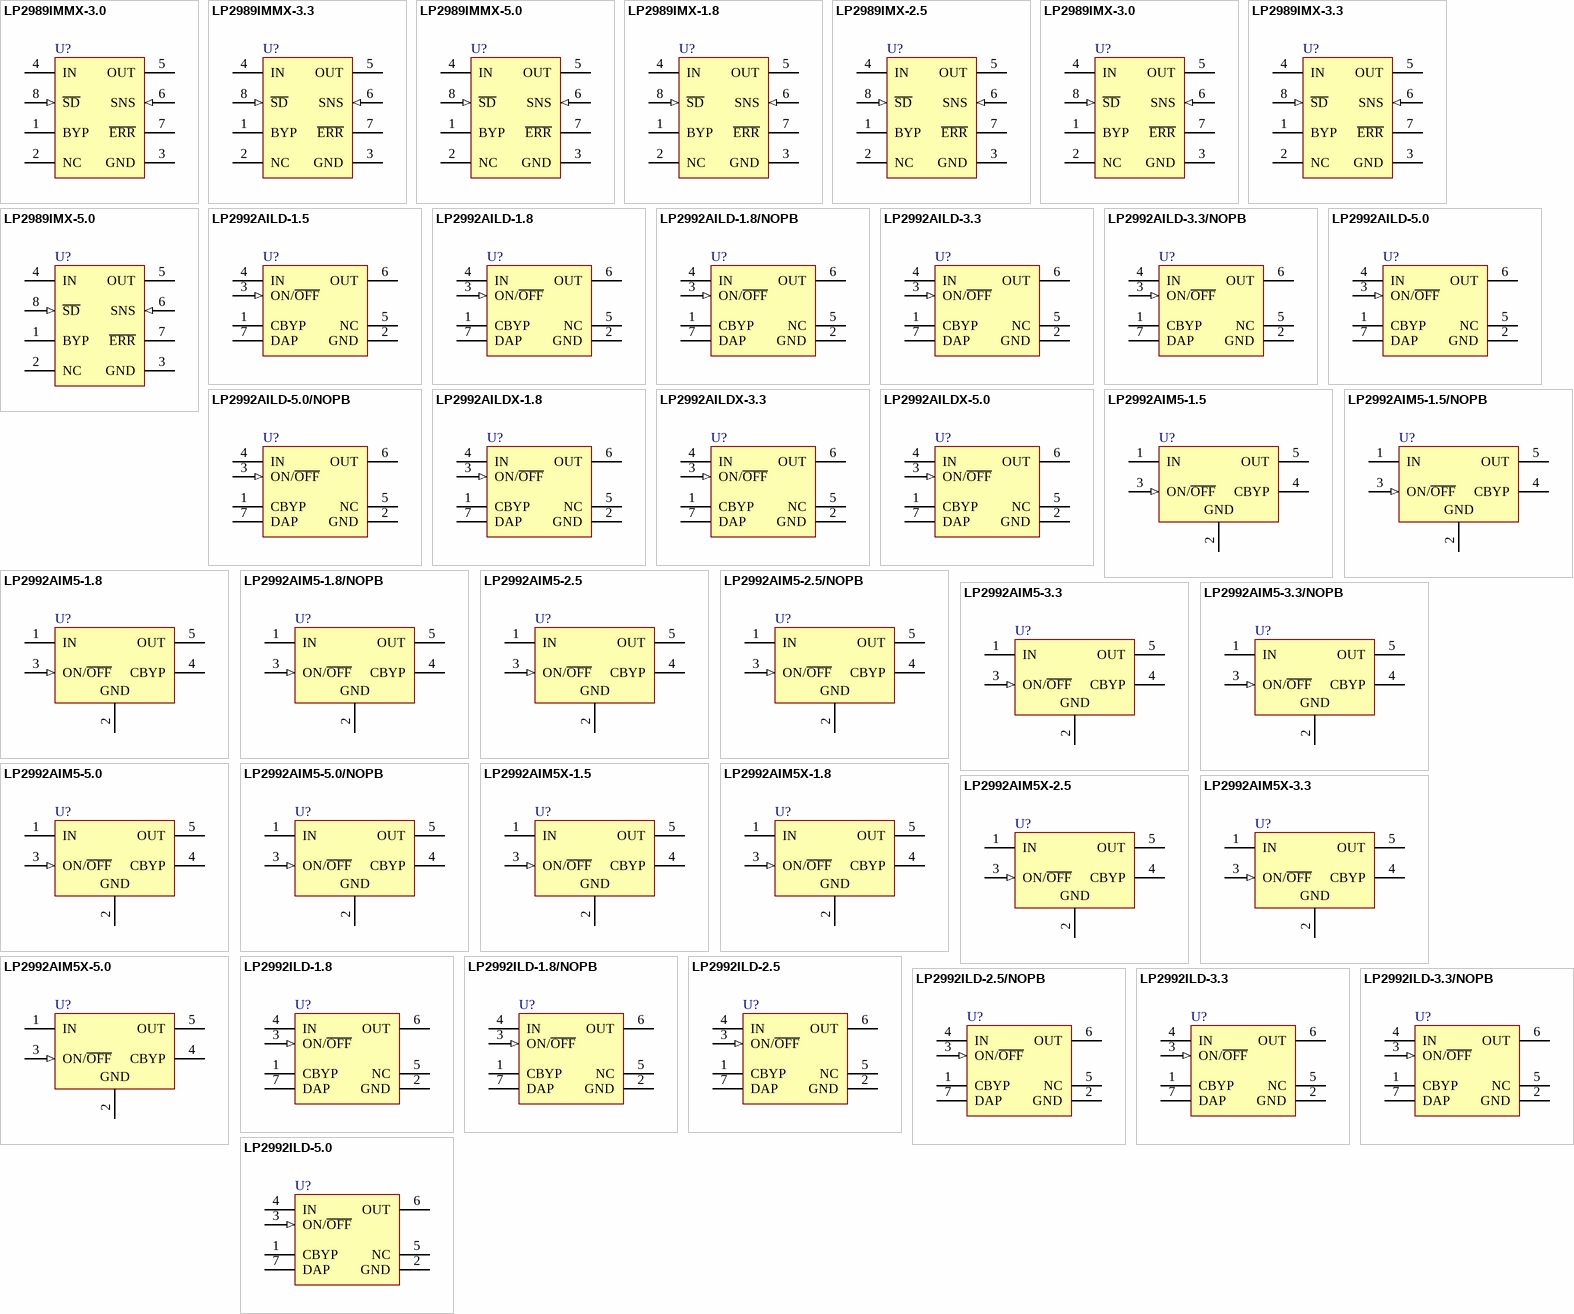
[diagram p31: symbols LP2989IMMX-3.0 to LP2992ILD-5.0]

## LP2989IMMX-3.0
designator U?
Micropower/Low Noise, 500 mA Ultra Low-Dropout Regulator, 8-pin Mini SOIC; PartNumber: LP2989IMMX-3.0; Manufacturer: National Semiconductor; PackageTopMarking: ZXTT*LA1B; PowerWise: N; CompType: LDO IC; Published: 1-Mar-2010; DatasheetVersion: Feb-2005; PackageVersion: revF, Apr-2008; PackageReference: MUA08A; Publisher: Altium Limited; PackageDescription: MINI SOIC, .118 x .118 x .034in, 8 Lead, .0256in Pitch; Supplier 1: Digi-Key; Supplier Part Number 1: LP2989IMMX-3.0-ND; RoHS: N; PinCount: 8; Code_JEDEC: MO-187-AA; ComponentLink1Description: LP2989 Datasheet; ComponentLink1URL: http://www.national.com/ds/LP/LP2989.pdf; ComponentLink2Description: LP2989 Web Page; ComponentLink2URL: http://www.national.com/pf/LP/LP2989.html; ComponentLink3Description: MUA08A Package Page; ComponentLink3URL: http://www.national.com/packaging/folders/mua08a.html
footprint MUA08A_N (TSOP, 8-Leads, Body 3x3mm, Pitch 0.65mm, IPC Medium Density)
footprint MUA08A_L (TSOP, 8-Leads, Body 3x3mm, Pitch 0.65mm, IPC High Density)
footprint MUA08A_M (TSOP, 8-Leads, Body 3x3mm, Pitch 0.65mm, IPC Low Density)
pins: 1 BYP, 2 NC, 3 GND (power), 4 IN (power), 5 OUT (power), 6 SNS (in), 7 ~{ERR} (oc), 8 ~{SD} (in)

## LP2989IMMX-3.3
designator U?
Micropower/Low Noise, 500 mA Ultra Low-Dropout Regulator, 8-pin Mini SOIC; PartNumber: LP2989IMMX-3.3; Manufacturer: National Semiconductor; PackageTopMarking: ZXTT*LA2B; PowerWise: N; CompType: LDO IC; Published: 1-Mar-2010; DatasheetVersion: Feb-2005; PackageVersion: revF, Apr-2008; PackageReference: MUA08A; Publisher: Altium Limited; PackageDescription: MINI SOIC, .118 x .118 x .034in, 8 Lead, .0256in Pitch; RoHS: N; PinCount: 8; Code_JEDEC: MO-187-AA; ComponentLink1Description: LP2989 Datasheet; ComponentLink1URL: http://www.national.com/ds/LP/LP2989.pdf; ComponentLink2Description: LP2989 Web Page; ComponentLink2URL: http://www.national.com/pf/LP/LP2989.html; ComponentLink3Description: MUA08A Package Page; ComponentLink3URL: http://www.national.com/packaging/folders/mua08a.html
footprint MUA08A_N (TSOP, 8-Leads, Body 3x3mm, Pitch 0.65mm, IPC Medium Density)
footprint MUA08A_L (TSOP, 8-Leads, Body 3x3mm, Pitch 0.65mm, IPC High Density)
footprint MUA08A_M (TSOP, 8-Leads, Body 3x3mm, Pitch 0.65mm, IPC Low Density)
pins: 1 BYP, 2 NC, 3 GND (power), 4 IN (power), 5 OUT (power), 6 SNS (in), 7 ~{ERR} (oc), 8 ~{SD} (in)

## LP2989IMMX-5.0
designator U?
Micropower/Low Noise, 500 mA Ultra Low-Dropout Regulator, 8-pin Mini SOIC; PartNumber: LP2989IMMX-5.0; Manufacturer: National Semiconductor; PackageTopMarking: ZXTT*LA4B; PowerWise: N; CompType: LDO IC; Published: 1-Mar-2010; DatasheetVersion: Feb-2005; PackageVersion: revF, Apr-2008; PackageReference: MUA08A; Publisher: Altium Limited; PackageDescription: MINI SOIC, .118 x .118 x .034in, 8 Lead, .0256in Pitch; RoHS: N; PinCount: 8; Code_JEDEC: MO-187-AA; ComponentLink1Description: LP2989 Datasheet; ComponentLink1URL: http://www.national.com/ds/LP/LP2989.pdf; ComponentLink2Description: LP2989 Web Page; ComponentLink2URL: http://www.national.com/pf/LP/LP2989.html; ComponentLink3Description: MUA08A Package Page; ComponentLink3URL: http://www.national.com/packaging/folders/mua08a.html
footprint MUA08A_N (TSOP, 8-Leads, Body 3x3mm, Pitch 0.65mm, IPC Medium Density)
footprint MUA08A_L (TSOP, 8-Leads, Body 3x3mm, Pitch 0.65mm, IPC High Density)
footprint MUA08A_M (TSOP, 8-Leads, Body 3x3mm, Pitch 0.65mm, IPC Low Density)
pins: 1 BYP, 2 NC, 3 GND (power), 4 IN (power), 5 OUT (power), 6 SNS (in), 7 ~{ERR} (oc), 8 ~{SD} (in)

## LP2989IMX-1.8
designator U?
Micropower 500 mA Low Noise Low-Dropout Regulator for Applications with Output Voltages < 2V, 8-pin Narrow SOIC; PartNumber: LP2989IMX-1.8; Manufacturer: National Semiconductor; PackageTopMarking: NSZXTT*2989*IM1.8; PowerWise: N; CompType: LDO IC; Published: 1-Mar-2010; DatasheetVersion: Feb-2005; PackageVersion: revM, May-2009; PackageReference: M08A; Publisher: Altium Limited; PackageDescription: SOIC Narrow, 4.9 x 3.9 x 1.45mm, 8 Lead, 1.27mm Pitch; RoHS: N; PinCount: 8; Code_JEDEC: MS-012-AA; Code_IPC: SOIC127P600-8; ComponentLink1Description: LP2989 Datasheet; ComponentLink1URL: http://www.national.com/ds/LP/LP2989LV.pdf; ComponentLink2Description: LP2989 Web Page; ComponentLink2URL: http://www.national.com/pf/LP/LP2989.html; ComponentLink3Description: M08A Package Page; ComponentLink3URL: http://www.national.com/packaging/folders/m08a.html
footprint M08A_N (SOIC, 8-Leads, Body 4.9x3.9mm, Pitch 1.27mm, IPC Medium Density)
footprint M08A_L (SOIC, 8-Leads, Body 4.9x3.9mm, Pitch 1.27mm, IPC High Density)
footprint M08A_M (SOIC, 8-Leads, Body 4.9x3.9mm, Pitch 1.27mm, IPC Low Density)
pins: 1 BYP, 2 NC, 3 GND (power), 4 IN (power), 5 OUT (power), 6 SNS (in), 7 ~{ERR} (oc), 8 ~{SD} (in)

## LP2989IMX-2.5
designator U?
Micropower/Low Noise, 500 mA Ultra Low-Dropout Regulator, 8-pin Narrow SOIC; PartNumber: LP2989IMX-2.5; Manufacturer: National Semiconductor; PackageTopMarking: NSZXTT*2989*IM2.5; PowerWise: N; CompType: LDO IC; Published: 1-Mar-2010; DatasheetVersion: Feb-2005; PackageVersion: revM, May-2009; PackageReference: M08A; Publisher: Altium Limited; PackageDescription: SOIC Narrow, 4.9 x 3.9 x 1.45mm, 8 Lead, 1.27mm Pitch; Supplier 1: Digi-Key; Supplier Part Number 1: LP2989IMX-2.5-ND; RoHS: N; PinCount: 8; Code_JEDEC: MS-012-AA; Code_IPC: SOIC127P600-8; ComponentLink1Description: LP2989 Datasheet; ComponentLink1URL: http://www.national.com/ds/LP/LP2989.pdf; ComponentLink2Description: LP2989 Web Page; ComponentLink2URL: http://www.national.com/pf/LP/LP2989.html; ComponentLink3Description: M08A Package Page; ComponentLink3URL: http://www.national.com/packaging/folders/m08a.html
footprint M08A_N (SOIC, 8-Leads, Body 4.9x3.9mm, Pitch 1.27mm, IPC Medium Density)
footprint M08A_L (SOIC, 8-Leads, Body 4.9x3.9mm, Pitch 1.27mm, IPC High Density)
footprint M08A_M (SOIC, 8-Leads, Body 4.9x3.9mm, Pitch 1.27mm, IPC Low Density)
pins: 1 BYP, 2 NC, 3 GND (power), 4 IN (power), 5 OUT (power), 6 SNS (in), 7 ~{ERR} (oc), 8 ~{SD} (in)

## LP2989IMX-3.0
designator U?
Micropower/Low Noise, 500 mA Ultra Low-Dropout Regulator, 8-pin Narrow SOIC; PartNumber: LP2989IMX-3.0; Manufacturer: National Semiconductor; PackageTopMarking: NSZXTT*2989*IM3.0; PowerWise: N; CompType: LDO IC; Published: 1-Mar-2010; DatasheetVersion: Feb-2005; PackageVersion: revM, May-2009; PackageReference: M08A; Publisher: Altium Limited; PackageDescription: SOIC Narrow, 4.9 x 3.9 x 1.45mm, 8 Lead, 1.27mm Pitch; RoHS: N; PinCount: 8; Code_JEDEC: MS-012-AA; Code_IPC: SOIC127P600-8; ComponentLink1Description: LP2989 Datasheet; ComponentLink1URL: http://www.national.com/ds/LP/LP2989.pdf; ComponentLink2Description: LP2989 Web Page; ComponentLink2URL: http://www.national.com/pf/LP/LP2989.html; ComponentLink3Description: M08A Package Page; ComponentLink3URL: http://www.national.com/packaging/folders/m08a.html
footprint M08A_N (SOIC, 8-Leads, Body 4.9x3.9mm, Pitch 1.27mm, IPC Medium Density)
footprint M08A_L (SOIC, 8-Leads, Body 4.9x3.9mm, Pitch 1.27mm, IPC High Density)
footprint M08A_M (SOIC, 8-Leads, Body 4.9x3.9mm, Pitch 1.27mm, IPC Low Density)
pins: 1 BYP, 2 NC, 3 GND (power), 4 IN (power), 5 OUT (power), 6 SNS (in), 7 ~{ERR} (oc), 8 ~{SD} (in)

## LP2989IMX-3.3
designator U?
Micropower/Low Noise, 500 mA Ultra Low-Dropout Regulator, 8-pin Narrow SOIC; PartNumber: LP2989IMX-3.3; Manufacturer: National Semiconductor; PackageTopMarking: NSZXTT*2989*IM3.3; PowerWise: N; CompType: LDO IC; Published: 1-Mar-2010; DatasheetVersion: Feb-2005; PackageVersion: revM, May-2009; PackageReference: M08A; Publisher: Altium Limited; PackageDescription: SOIC Narrow, 4.9 x 3.9 x 1.45mm, 8 Lead, 1.27mm Pitch; Supplier 1: Digi-Key; Supplier Part Number 1: LP2989IMX-3.3-ND; RoHS: N; PinCount: 8; Code_JEDEC: MS-012-AA; Code_IPC: SOIC127P600-8; ComponentLink1Description: LP2989 Datasheet; ComponentLink1URL: http://www.national.com/ds/LP/LP2989.pdf; ComponentLink2Description: LP2989 Web Page; ComponentLink2URL: http://www.national.com/pf/LP/LP2989.html; ComponentLink3Description: M08A Package Page; ComponentLink3URL: http://www.national.com/packaging/folders/m08a.html
footprint M08A_N (SOIC, 8-Leads, Body 4.9x3.9mm, Pitch 1.27mm, IPC Medium Density)
footprint M08A_L (SOIC, 8-Leads, Body 4.9x3.9mm, Pitch 1.27mm, IPC High Density)
footprint M08A_M (SOIC, 8-Leads, Body 4.9x3.9mm, Pitch 1.27mm, IPC Low Density)
pins: 1 BYP, 2 NC, 3 GND (power), 4 IN (power), 5 OUT (power), 6 SNS (in), 7 ~{ERR} (oc), 8 ~{SD} (in)

## LP2989IMX-5.0
designator U?
Micropower/Low Noise, 500 mA Ultra Low-Dropout Regulator, 8-pin Narrow SOIC; PartNumber: LP2989IMX-5.0; Manufacturer: National Semiconductor; PackageTopMarking: NSZXTT*2989*IM5.0; PowerWise: N; CompType: LDO IC; Published: 1-Mar-2010; DatasheetVersion: Feb-2005; PackageVersion: revM, May-2009; PackageReference: M08A; Publisher: Altium Limited; PackageDescription: SOIC Narrow, 4.9 x 3.9 x 1.45mm, 8 Lead, 1.27mm Pitch; RoHS: N; PinCount: 8; Code_JEDEC: MS-012-AA; Code_IPC: SOIC127P600-8; ComponentLink1Description: LP2989 Datasheet; ComponentLink1URL: http://www.national.com/ds/LP/LP2989.pdf; ComponentLink2Description: LP2989 Web Page; ComponentLink2URL: http://www.national.com/pf/LP/LP2989.html; ComponentLink3Description: M08A Package Page; ComponentLink3URL: http://www.national.com/packaging/folders/m08a.html
footprint M08A_N (SOIC, 8-Leads, Body 4.9x3.9mm, Pitch 1.27mm, IPC Medium Density)
footprint M08A_L (SOIC, 8-Leads, Body 4.9x3.9mm, Pitch 1.27mm, IPC High Density)
footprint M08A_M (SOIC, 8-Leads, Body 4.9x3.9mm, Pitch 1.27mm, IPC Low Density)
pins: 1 BYP, 2 NC, 3 GND (power), 4 IN (power), 5 OUT (power), 6 SNS (in), 7 ~{ERR} (oc), 8 ~{SD} (in)

## LP2992AILD-1.5
designator U?
Micropower 250 mA Low-Noise Ultra Low-Dropout Regulator, 6-pin LLP; PartNumber: LP2992AILD-1.5; Manufacturer: National Semiconductor; PackageTopMarking: ZXYTT*L011A; PowerWise: N; CompType: LDO IC; Published: 4-Dec-2008; DatasheetVersion: May-2005; PackageVersion: revA, Jul-2001; PackageReference: LDE06A; Publisher: Altium Limited; PackageDescription: LLP, Plastic, Dual, 2.92 x 3.29 x 0.75mm Body, 6 Lead, 0.95mm Pitch, SOT23 Land; RoHS: N; PinCount: 6; ComponentLink1Description: LP2992 Datasheet; ComponentLink1URL: http://www.national.com/ds/LP/LP2992.pdf; ComponentLink2Description: LP2992 Web Page; ComponentLink2URL: http://www.national.com/pf/LP/LP2992.html; ComponentLink3Description: LDE06A Package Page; ComponentLink3URL: http://www.national.com/packaging/folders/lde06a.html
footprint LDE06A (PSON, 6-Leads, Body 2.92x3.29 mm, Pitch 0.95mm, NSC Recommended)
pins: 1 CBYP, 2 GND (power), 3 ON/~{OFF} (in), 4 IN (power), 5 NC, 6 OUT (power), 7 DAP (power)

## LP2992AILD-1.8
designator U?
Micropower 250 mA Low-Noise Ultra Low-Dropout Regulator, 6-pin LLP; PartNumber: LP2992AILD-1.8; Manufacturer: National Semiconductor; PackageTopMarking: ZXYTT*L012A; PowerWise: N; CompType: LDO IC; Published: 4-Dec-2008; DatasheetVersion: May-2005; PackageVersion: revA, Jul-2001; PackageReference: LDE06A; Publisher: Altium Limited; PackageDescription: LLP, Plastic, Dual, 2.92 x 3.29 x 0.75mm Body, 6 Lead, 0.95mm Pitch, SOT23 Land; RoHS: N; PinCount: 6; ComponentLink1Description: LP2992 Datasheet; ComponentLink1URL: http://www.national.com/ds/LP/LP2992.pdf; ComponentLink2Description: LP2992 Web Page; ComponentLink2URL: http://www.national.com/pf/LP/LP2992.html; ComponentLink3Description: LDE06A Package Page; ComponentLink3URL: http://www.national.com/packaging/folders/lde06a.html
footprint LDE06A (PSON, 6-Leads, Body 2.92x3.29 mm, Pitch 0.95mm, NSC Recommended)
pins: 1 CBYP, 2 GND (power), 3 ON/~{OFF} (in), 4 IN (power), 5 NC, 6 OUT (power), 7 DAP (power)

## LP2992AILD-1.8/NOPB
designator U?
Micropower 250 mA Low-Noise Ultra Low-Dropout Regulator, 6-pin LLP, Pb-Free; PartNumber: LP2992AILD-1.8/NOPB; Manufacturer: National Semiconductor; PackageTopMarking: ZXYTT*L012A; PowerWise: N; CompType: LDO IC; Published: 1-Mar-2010; DatasheetVersion: May-2005; PackageVersion: revA, Jul-2001; PackageReference: LDE06A; Publisher: Altium Limited; PackageDescription: LLP, Plastic, Dual, 2.92 x 3.29 x 0.75mm Body, 6 Lead, 0.95mm Pitch, SOT23 Land; Supplier 1: Digi-Key; Supplier Part Number 1: LP2992AILD-1.8TR-ND; Supplier 2: Digi-Key; Supplier Part Number 2: LP2992AILD-1.8CT-ND; Supplier 3: Digi-Key; Supplier Part Number 3: LP2992AILD-1.8DKR-ND; RoHS: Y; PinCount: 6; ComponentLink1Description: LP2992 Datasheet; ComponentLink1URL: http://www.national.com/ds/LP/LP2992.pdf; ComponentLink2Description: LP2992 Web Page; ComponentLink2URL: http://www.national.com/pf/LP/LP2992.html; ComponentLink3Description: LDE06A Package Page; ComponentLink3URL: http://www.national.com/packaging/folders/lde06a.html
footprint LDE06A (PSON, 6-Leads, Body 2.92x3.29 mm, Pitch 0.95mm, NSC Recommended)
pins: 1 CBYP, 2 GND (power), 3 ON/~{OFF} (in), 4 IN (power), 5 NC, 6 OUT (power), 7 DAP (power)

## LP2992AILD-3.3
designator U?
Micropower 250 mA Low-Noise Ultra Low-Dropout Regulator, 6-pin LLP; PartNumber: LP2992AILD-3.3; Manufacturer: National Semiconductor; PackageTopMarking: ZXYTT*L014A; PowerWise: N; CompType: LDO IC; Published: 4-Dec-2008; DatasheetVersion: May-2005; PackageVersion: revA, Jul-2001; PackageReference: LDE06A; Publisher: Altium Limited; PackageDescription: LLP, Plastic, Dual, 2.92 x 3.29 x 0.75mm Body, 6 Lead, 0.95mm Pitch, SOT23 Land; RoHS: N; PinCount: 6; ComponentLink1Description: LP2992 Datasheet; ComponentLink1URL: http://www.national.com/ds/LP/LP2992.pdf; ComponentLink2Description: LP2992 Web Page; ComponentLink2URL: http://www.national.com/pf/LP/LP2992.html; ComponentLink3Description: LDE06A Package Page; ComponentLink3URL: http://www.national.com/packaging/folders/lde06a.html
footprint LDE06A (PSON, 6-Leads, Body 2.92x3.29 mm, Pitch 0.95mm, NSC Recommended)
pins: 1 CBYP, 2 GND (power), 3 ON/~{OFF} (in), 4 IN (power), 5 NC, 6 OUT (power), 7 DAP (power)

## LP2992AILD-3.3/NOPB
designator U?
Micropower 250 mA Low-Noise Ultra Low-Dropout Regulator, 6-pin LLP, Pb-Free; PartNumber: LP2992AILD-3.3/NOPB; Manufacturer: National Semiconductor; PackageTopMarking: ZXYTT*L014A; PowerWise: N; CompType: LDO IC; Published: 1-Mar-2010; DatasheetVersion: May-2005; PackageVersion: revA, Jul-2001; PackageReference: LDE06A; Publisher: Altium Limited; PackageDescription: LLP, Plastic, Dual, 2.92 x 3.29 x 0.75mm Body, 6 Lead, 0.95mm Pitch, SOT23 Land; Supplier 1: Digi-Key; Supplier Part Number 1: LP2992AILD-3.3TR-ND; Supplier 2: Digi-Key; Supplier Part Number 2: LP2992AILD-3.3CT-ND; Supplier 3: Digi-Key; Supplier Part Number 3: LP2992AILD-3.3DKR-ND; Supplier 4: Farnell; Supplier Part Number 4: 1685690; RoHS: Y; PinCount: 6; ComponentLink1Description: LP2992 Datasheet; ComponentLink1URL: http://www.national.com/ds/LP/LP2992.pdf; ComponentLink2Description: LP2992 Web Page; ComponentLink2URL: http://www.national.com/pf/LP/LP2992.html; ComponentLink3Description: LDE06A Package Page; ComponentLink3URL: http://www.national.com/packaging/folders/lde06a.html
footprint LDE06A (PSON, 6-Leads, Body 2.92x3.29 mm, Pitch 0.95mm, NSC Recommended)
pins: 1 CBYP, 2 GND (power), 3 ON/~{OFF} (in), 4 IN (power), 5 NC, 6 OUT (power), 7 DAP (power)

## LP2992AILD-5.0
designator U?
Micropower 250 mA Low-Noise Ultra Low-Dropout Regulator, 6-pin LLP; PartNumber: LP2992AILD-5.0; Manufacturer: National Semiconductor; PackageTopMarking: ZXYTT*L015A; PowerWise: N; CompType: LDO IC; Published: 4-Dec-2008; DatasheetVersion: May-2005; PackageVersion: revA, Jul-2001; PackageReference: LDE06A; Publisher: Altium Limited; PackageDescription: LLP, Plastic, Dual, 2.92 x 3.29 x 0.75mm Body, 6 Lead, 0.95mm Pitch, SOT23 Land; RoHS: N; PinCount: 6; ComponentLink1Description: LP2992 Datasheet; ComponentLink1URL: http://www.national.com/ds/LP/LP2992.pdf; ComponentLink2Description: LP2992 Web Page; ComponentLink2URL: http://www.national.com/pf/LP/LP2992.html; ComponentLink3Description: LDE06A Package Page; ComponentLink3URL: http://www.national.com/packaging/folders/lde06a.html
footprint LDE06A (PSON, 6-Leads, Body 2.92x3.29 mm, Pitch 0.95mm, NSC Recommended)
pins: 1 CBYP, 2 GND (power), 3 ON/~{OFF} (in), 4 IN (power), 5 NC, 6 OUT (power), 7 DAP (power)

## LP2992AILD-5.0/NOPB
designator U?
Micropower 250 mA Low-Noise Ultra Low-Dropout Regulator, 6-pin LLP, Pb-Free; PartNumber: LP2992AILD-5.0/NOPB; Manufacturer: National Semiconductor; PackageTopMarking: ZXYTT*L015A; PowerWise: N; CompType: LDO IC; Published: 1-Mar-2010; DatasheetVersion: May-2005; PackageVersion: revA, Jul-2001; PackageReference: LDE06A; Publisher: Altium Limited; PackageDescription: LLP, Plastic, Dual, 2.92 x 3.29 x 0.75mm Body, 6 Lead, 0.95mm Pitch, SOT23 Land; Supplier 1: Digi-Key; Supplier Part Number 1: LP2992AILD-5.0TR-ND; Supplier 2: Digi-Key; Supplier Part Number 2: LP2992AILD-5.0CT-ND; Supplier 3: Digi-Key; Supplier Part Number 3: LP2992AILD-5.0DKR-ND; Supplier 4: Farnell; Supplier Part Number 4: 1559594; RoHS: Y; PinCount: 6; ComponentLink1Description: LP2992 Datasheet; ComponentLink1URL: http://www.national.com/ds/LP/LP2992.pdf; ComponentLink2Description: LP2992 Web Page; ComponentLink2URL: http://www.national.com/pf/LP/LP2992.html; ComponentLink3Description: LDE06A Package Page; ComponentLink3URL: http://www.national.com/packaging/folders/lde06a.html
footprint LDE06A (PSON, 6-Leads, Body 2.92x3.29 mm, Pitch 0.95mm, NSC Recommended)
pins: 1 CBYP, 2 GND (power), 3 ON/~{OFF} (in), 4 IN (power), 5 NC, 6 OUT (power), 7 DAP (power)

## LP2992AILDX-1.8
designator U?
Micropower 250 mA Low-Noise Ultra Low-Dropout Regulator, 6-pin LLP; PartNumber: LP2992AILDX-1.8; Manufacturer: National Semiconductor; PackageTopMarking: ZXYTT*L012A; PowerWise: N; CompType: LDO IC; Published: 1-Mar-2010; DatasheetVersion: May-2005; PackageVersion: revA, Jul-2001; PackageReference: LDE06A; Publisher: Altium Limited; PackageDescription: LLP, Plastic, Dual, 2.92 x 3.29 x 0.75mm Body, 6 Lead, 0.95mm Pitch, SOT23 Land; Supplier 1: Digi-Key; Supplier Part Number 1: LP2992AILDX-1.8-ND; RoHS: N; PinCount: 6; ComponentLink1Description: LP2992 Datasheet; ComponentLink1URL: http://www.national.com/ds/LP/LP2992.pdf; ComponentLink2Description: LP2992 Web Page; ComponentLink2URL: http://www.national.com/pf/LP/LP2992.html; ComponentLink3Description: LDE06A Package Page; ComponentLink3URL: http://www.national.com/packaging/folders/lde06a.html
footprint LDE06A (PSON, 6-Leads, Body 2.92x3.29 mm, Pitch 0.95mm, NSC Recommended)
pins: 1 CBYP, 2 GND (power), 3 ON/~{OFF} (in), 4 IN (power), 5 NC, 6 OUT (power), 7 DAP (power)

## LP2992AILDX-3.3
designator U?
Micropower 250 mA Low-Noise Ultra Low-Dropout Regulator, 6-pin LLP; PartNumber: LP2992AILDX-3.3; Manufacturer: National Semiconductor; PackageTopMarking: ZXYTT*L014A; PowerWise: N; CompType: LDO IC; Published: 1-Mar-2010; DatasheetVersion: May-2005; PackageVersion: revA, Jul-2001; PackageReference: LDE06A; Publisher: Altium Limited; PackageDescription: LLP, Plastic, Dual, 2.92 x 3.29 x 0.75mm Body, 6 Lead, 0.95mm Pitch, SOT23 Land; RoHS: N; PinCount: 6; ComponentLink1Description: LP2992 Datasheet; ComponentLink1URL: http://www.national.com/ds/LP/LP2992.pdf; ComponentLink2Description: LP2992 Web Page; ComponentLink2URL: http://www.national.com/pf/LP/LP2992.html; ComponentLink3Description: LDE06A Package Page; ComponentLink3URL: http://www.national.com/packaging/folders/lde06a.html
footprint LDE06A (PSON, 6-Leads, Body 2.92x3.29 mm, Pitch 0.95mm, NSC Recommended)
pins: 1 CBYP, 2 GND (power), 3 ON/~{OFF} (in), 4 IN (power), 5 NC, 6 OUT (power), 7 DAP (power)

## LP2992AILDX-5.0
designator U?
Micropower 250 mA Low-Noise Ultra Low-Dropout Regulator, 6-pin LLP; PartNumber: LP2992AILDX-5.0; Manufacturer: National Semiconductor; PackageTopMarking: ZXYTT*L015A; PowerWise: N; CompType: LDO IC; Published: 1-Mar-2010; DatasheetVersion: May-2005; PackageVersion: revA, Jul-2001; PackageReference: LDE06A; Publisher: Altium Limited; PackageDescription: LLP, Plastic, Dual, 2.92 x 3.29 x 0.75mm Body, 6 Lead, 0.95mm Pitch, SOT23 Land; RoHS: N; PinCount: 6; ComponentLink1Description: LP2992 Datasheet; ComponentLink1URL: http://www.national.com/ds/LP/LP2992.pdf; ComponentLink2Description: LP2992 Web Page; ComponentLink2URL: http://www.national.com/pf/LP/LP2992.html; ComponentLink3Description: LDE06A Package Page; ComponentLink3URL: http://www.national.com/packaging/folders/lde06a.html
footprint LDE06A (PSON, 6-Leads, Body 2.92x3.29 mm, Pitch 0.95mm, NSC Recommended)
pins: 1 CBYP, 2 GND (power), 3 ON/~{OFF} (in), 4 IN (power), 5 NC, 6 OUT (power), 7 DAP (power)